# EAGLE library part 6POS_JST (library MICROCONTROLLER)
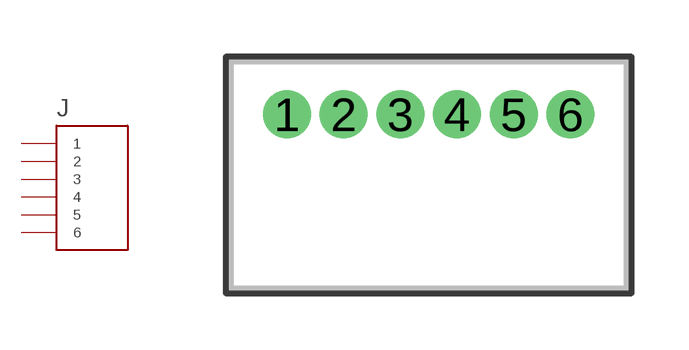
[diagram p11: symbol with the pads of 6POS_JST; footprint 6POS_JST]

Designator prefix J

## 6POS_JST (MANUFACTURER_PART_NUMBER: S6BZRLFSN; VENDOR: JST)  [6POS_JST]
1  6
2  5
3  4
4  3
5  2
6  1

## Footprint 6POS_JST (pad centres in mm)
drill 0.762 pad 1.27: 1 -7.493,0; 2 -5.994,0; 3 -4.496,0; 4 -2.997,0; 5 -1.499,0; 6 0,0